# EAGLE library part CON_DSUB9 (library akita)
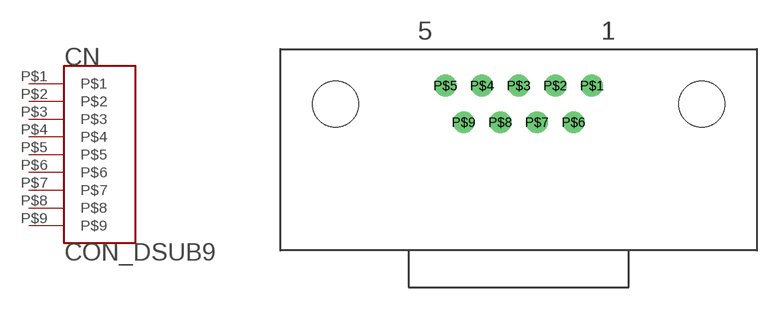
[diagram p160: symbol with the pads of CON_DSUB9; footprint CON_DSUB9]

Designator prefix CN

## CON_DSUB9  [CON_DSUB9]
P$1  P$1
P$2  P$2
P$3  P$3
P$4  P$4
P$5  P$5
P$6  P$6
P$7  P$7
P$8  P$8
P$9  P$9

## Footprint CON_DSUB9 (pad centres in mm)
drill 1: P$1 5.08,1.27; P$2 2.54,1.27; P$3 0,1.27; P$4 -2.54,1.27; P$5 -5.08,1.27; P$6 3.81,-1.27; P$7 1.27,-1.27; P$8 -1.27,-1.27; P$9 -3.81,-1.27
hole 3.2 at -12.7,0
hole 3.2 at 12.7,0